# Altium footprint library PcbLibEEG.PcbLib: 9 footprints
Each footprint in its own frame and in the unit in brackets; x right, y up, seen from the top. Pads: shape width x height; smd on the part's side, far side on the other; paste and mask are expansions set on the pad; w line width, h text height; cw(c..) or ccw(c..) is an arc to the next point about the centre after c.
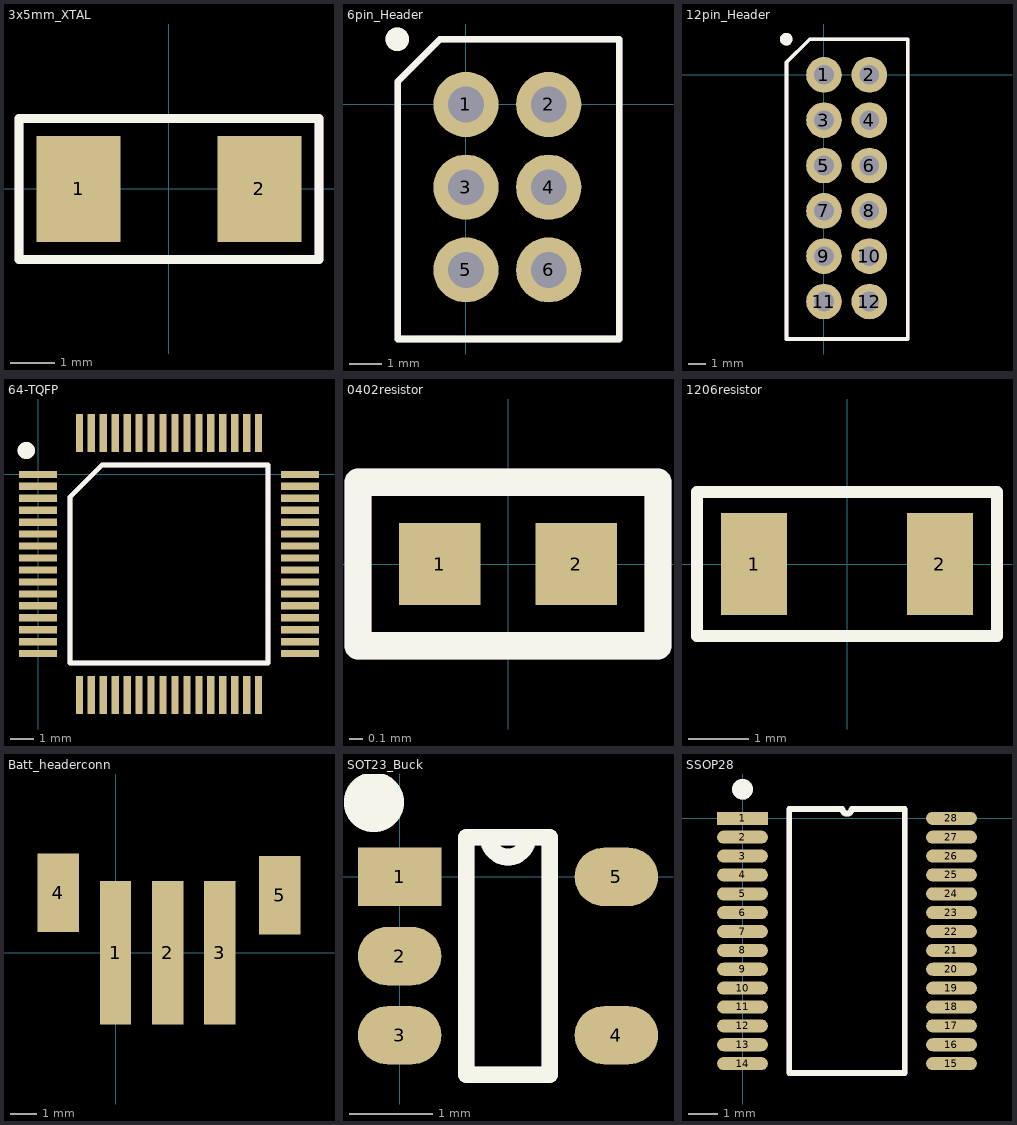
[diagram p0: the footprints below, top view; thin cyan lines are the x and y axes]

## 3x5mm_XTAL [mm]
pads (2):
  rect 1.9x2.4 smd: 1(-2.05,0) 2(2.05,0)
Top Overlay:
  lines w0.2: -3.4,-1.6 3.4,-1.6 3.4,1.6 -3.4,1.6 -3.4,-0.5 -3.4,-1.6
Mechanical 29:
  lines w0.2: -3.4,-1.6 -3.4,-0.5 -3.4,1.6 3.4,1.6 3.4,-1.6 -3.4,-1.6
  text "'.Designator'" at -2.9,-0.3 h0.7

## 6pin_Header [mm]
pads (6):
  round 2 hole 1.1: 1(0,0) 2(2.54,0) 3(0,-2.54) 4(2.54,-2.54) 5(0,-5.08) 6(2.54,-5.08)
Top Overlay:
  circle w0.7: c-2.11,2 r0.01
  lines w0.2: -2.1,-7.2 4.7,-7.2 4.7,2 -0.8,2 -2.1,0.7 -2.1,-7.2
Mechanical 29:
  circle w0.7: c-2.11,2 r0.01
  lines w0.2: -2.1,-7.2 -2.1,0.7 -0.8,2 4.7,2 4.7,-7.2 -2.1,-7.2
  text "'.Designator'" at -1.6,-3.4 h1

## 12pin_Header [mm]
pads (12):
  round 2 hole 1.1: 1(0,0) 2(2.54,0) 3(0,-2.54) 4(2.54,-2.54) 5(0,-5.08) 6(2.54,-5.08) 7(0,-7.62) 8(2.54,-7.62) 9(0,-10.16) 10(2.54,-10.16) 11(0,-12.7) 12(2.54,-12.7)
Top Overlay:
  circle w0.7: c-2.11,2 r0.01
  lines w0.2: -2.1,-14.8 4.7,-14.8 4.7,2 -0.8,2 -2.1,0.7 -2.1,-14.8
Mechanical 29:
  circle w0.7: c-2.11,2 r0.01
  lines w0.2: -2.1,-14.8 -2.1,0.7 -0.8,2 4.7,2 4.7,-14.8 -2.1,-14.8
  text "'.Designator'" at -1.4,-7 h1

## 64-TQFP [mm]
pads (64):
  rect 1.6x0.3 smd mask+0.05: 1(0,0) 2(0,-0.5) 3(0,-1) 4(0,-1.5) 5(0,-2) 6(0,-2.5) 7(0,-3) 8(0,-3.5) 9(0,-4) 10(0,-4.5) 11(0,-5) 12(0,-5.5) 13(0,-6) 14(0,-6.5) 15(0,-7) 16(0,-7.5) 33(10.95,-7.5) 34(10.95,-7) 35(10.95,-6.5) 36(10.95,-6) 37(10.95,-5.5) 38(10.95,-5) 39(10.95,-4.5) 40(10.95,-4) 41(10.95,-3.5) 42(10.95,-3) 43(10.95,-2.5) 44(10.95,-2) 45(10.95,-1.5) 46(10.95,-1) 47(10.95,-0.5) 48(10.95,0)
  rect 0.3x1.6 smd mask+0.05: 17(1.725,-9.225) 18(2.225,-9.225) 19(2.725,-9.225) 20(3.225,-9.225) 21(3.725,-9.225) 22(4.225,-9.225) 23(4.725,-9.225) 24(5.225,-9.225) 25(5.725,-9.225) 26(6.225,-9.225) 27(6.725,-9.225) 28(7.225,-9.225) 29(7.725,-9.225) 30(8.225,-9.225) 31(8.725,-9.225) 32(9.225,-9.225) 49(9.225,1.725) 50(8.725,1.725) 51(8.225,1.725) 52(7.725,1.725) 53(7.225,1.725) 54(6.725,1.725) 55(6.225,1.725) 56(5.725,1.725) 57(5.225,1.725) 58(4.725,1.725) 59(4.225,1.725) 60(3.725,1.725) 61(3.225,1.725) 62(2.725,1.725) 63(2.225,1.725) 64(1.725,1.725)
Top Overlay:
  circle w0.7: c-0.5,1 r0.01
  lines w0.2: 1.335,-7.89 1.335,-0.945 2.67,0.39 9.615,0.39 9.615,-7.89 1.335,-7.89
Mechanical 29:
  circle w0.7: c-0.5,1 r0.01
  lines w0.2: 1.335,-7.89 9.615,-7.89 9.615,0.39 2.67,0.39 1.335,-0.945 1.335,-7.89
  text "'.Designator'" at 2.6,-4.3 h0.7
3D body "PAG64.step": height 1.2, standoff 0, extent -0.596,-9.896 11.596,2.296

## 0402resistor [mm]
pads (2):
  rect 0.6x0.6 smd mask+0.08: 1(-0.5,0) 2(0.5,0)
Top Overlay:
  lines w0.2: -1.1,-0.6 1.1,-0.6 1.1,0.6 -1.1,0.6 -1.1,-0.6
Mechanical 29:
  lines w0.2: -1.1,-0.6 -1.1,0.6 1.1,0.6 1.1,-0.6 -1.1,-0.6
  text "'.Designator'" at -0.9,-0.2 h0.4

## 1206resistor [mm]
pads (2):
  rect 1.1x1.7 smd: 1(-1.55,0) 2(1.55,0)
Top Overlay:
  lines w0.2: -2.5,-1.2 2.5,-1.2 2.5,1.2 -2.5,1.2 -2.5,-1.2
Mechanical 29:
  lines w0.2: -2.5,-1.2 -2.5,1.2 2.5,1.2 2.5,-1.2 -2.5,-1.2
  text "'.Designator'" at -2.2,-0.4 h1

## Batt_headerconn [mm]
pads (5):
  rect 1.2x5.5 smd: 1(0,0) 2(2,0) 3(4,0)
  rect 1.6x3 smd: 4(-2.2,2.3) 5(6.3,2.2)

## SOT23_Buck [mm]
pads (5):
  rect 1x0.7 smd mask+0.08: 1(0,0)
  oval 1x0.7 smd mask+0.08: 2(0,-0.95) 3(0,-1.9) 4(2.6,-1.9) 5(2.6,0)
Top Overlay:
  circle w0.7: c-0.31,0.9 r0.01
  lines w0.2: 0.8,-2.375 1.8,-2.375 1.8,0.475 1.062,0.475 ccw(c1.3,0.475) 1.538,0.475 0.8,0.475 0.8,-2.375
Mechanical 29:
  circle w0.7: c-0.31,0.9 r0.01
  lines w0.2: 0.8,-2.375 0.8,0.475 1.538,0.475 cw(c1.3,0.475) 1.062,0.475 1.8,0.475 1.8,-2.375 0.8,-2.375
  text "'.Designator'" at 0.8,-1.2 h0.7

## SSOP28 [mm]
pads (28):
  rect 1.75x0.45 smd mask+0.05: 1(0,0)
  oval 1.75x0.45 smd mask+0.05: 2(0,-0.65) 3(0,-1.3) 4(0,-1.95) 5(0,-2.6) 6(0,-3.25) 7(0,-3.9) 8(0,-4.55) 9(0,-5.2) 10(0,-5.85) 11(0,-6.5) 12(0,-7.15) 13(0,-7.8) 14(0,-8.45) 15(7.2,-8.45) 16(7.2,-7.8) 17(7.2,-7.15) 18(7.2,-6.5) 19(7.2,-5.85) 20(7.2,-5.2) 21(7.2,-4.55) 22(7.2,-3.9) 23(7.2,-3.25) 24(7.2,-2.6) 25(7.2,-1.95) 26(7.2,-1.3) 27(7.2,-0.65) 28(7.2,0)
Top Overlay:
  circle w0.7: c0,1 r0.01
  lines w0.2: 1.61,-8.775 1.61,0.325 3.438,0.325 ccw(c3.6,0.325) 3.762,0.325 5.59,0.325 5.59,-8.775 1.61,-8.775
Mechanical 29:
  circle w0.7: c0,1 r0.01
  lines w0.2: 1.61,-8.775 5.59,-8.775 5.59,0.325 3.762,0.325 cw(c3.6,0.325) 3.438,0.325 1.61,0.325 1.61,-8.775
  text "'.Designator'" at 2.3,-4.7 h0.7
3D body "SSOP28_MC.step": height 2.01, standoff 0, extent -0.502,-9.445 7.702,1.045